# Altium footprint library USB2.0_HUB.PcbLib: 13 footprints
Each footprint in its own frame and in the unit in brackets; x right, y up, seen from the top. Pads: shape width x height; smd on the part's side, far side on the other; paste and mask are expansions set on the pad; w line width, h text height; cw(c..) or ccw(c..) is an arc to the next point about the centre after c.
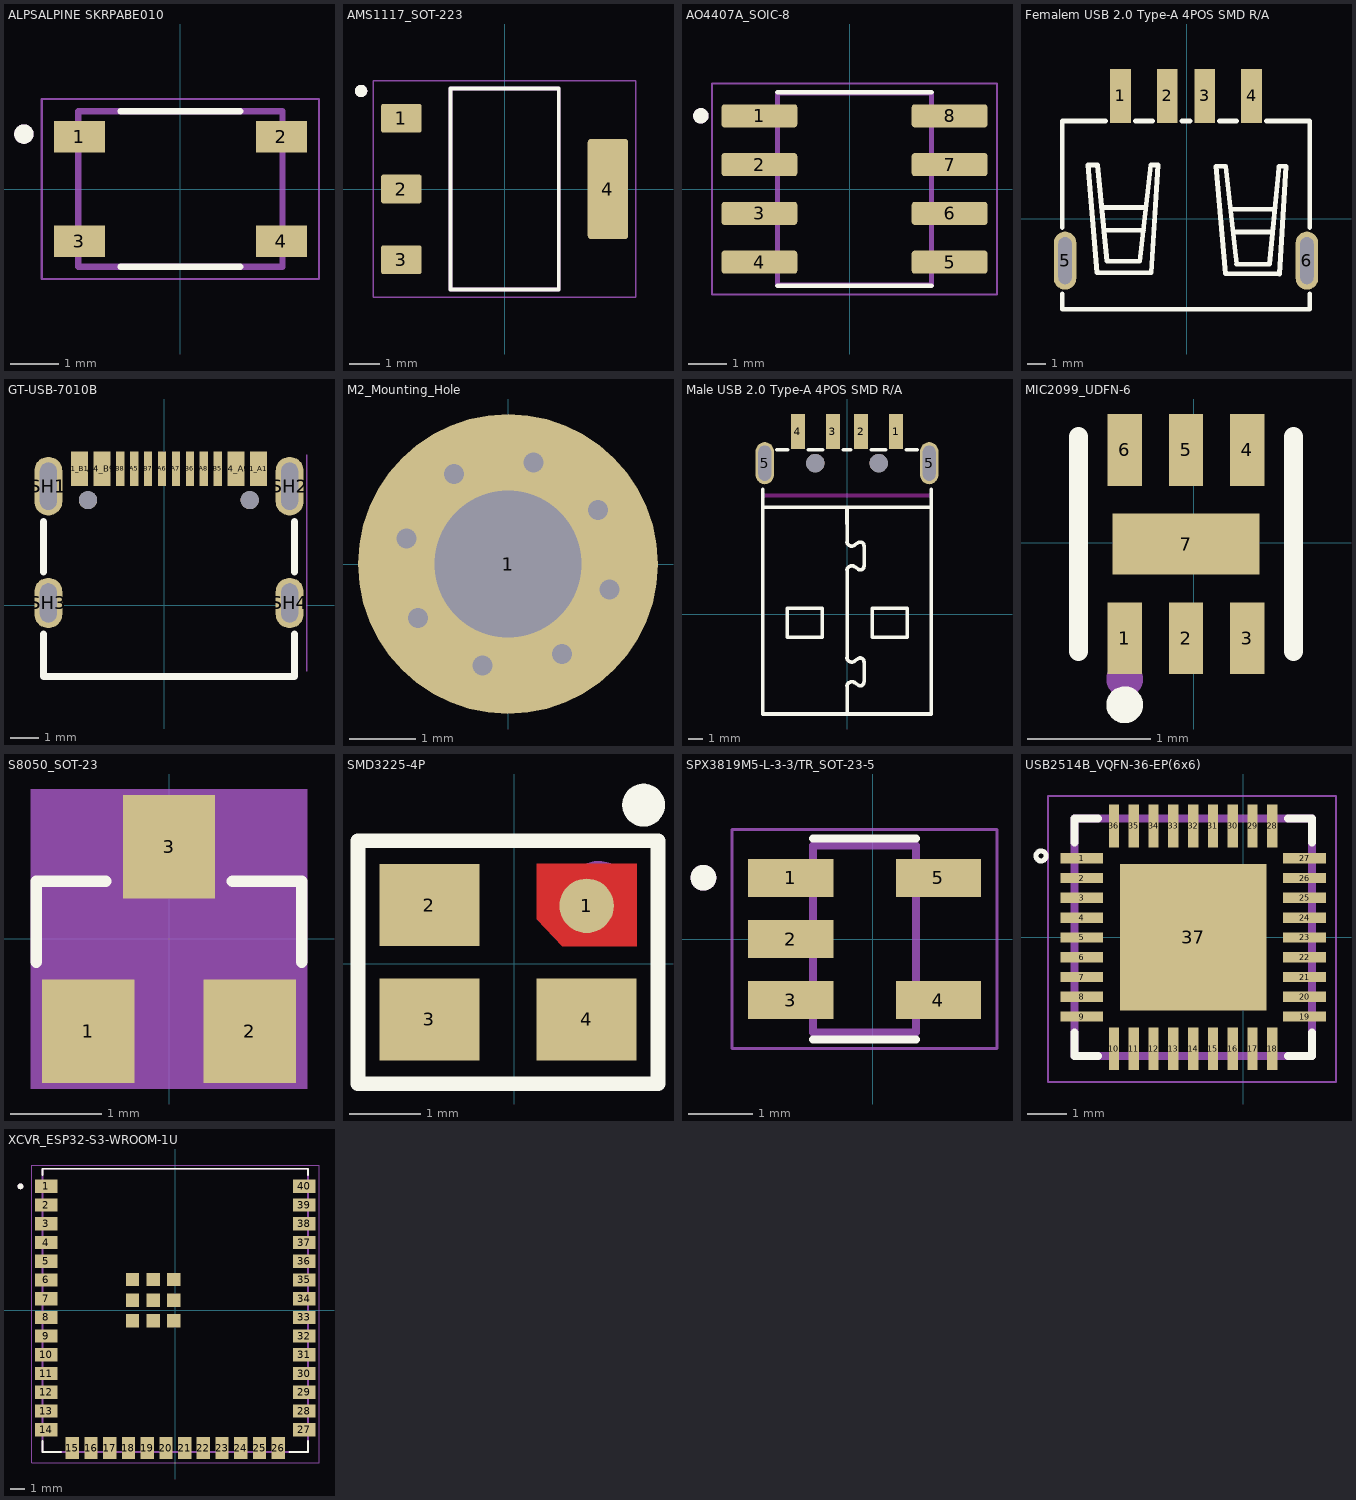
[diagram p0: the footprints below, top view; thin cyan lines are the x and y axes]

## ALPSALPINE SKRPABE010 [mm]
height 2.5
pads (4):
  rect 1.05x0.65 smd: 1(-2.075,1.075) 2(2.075,1.075) 3(-2.075,-1.075) 4(2.075,-1.075)
Top Overlay:
  circle w0.2: c-3.218,1.13 r0.1
  lines w0.127: -1.23,-1.6 1.23,-1.6 ; -1.23,1.6 1.23,1.6
Mechanical 13:
  circle w0.2: c-3.218,1.13 r0.1
  lines w0.127: -2.1,-1.6 2.1,-1.6 2.1,1.6 -2.1,1.6 -2.1,-1.6
Mechanical 15:
  lines w0.05: -2.85,-1.85 -2.85,1.85 2.85,1.85 2.85,-1.85 -2.85,-1.85
3D body "step_temp.STEP": height 2.5, standoff 0, extent -2.3,-1.6 2.3,1.6

## AMS1117_SOT-223 [mm]
height 1.8
pads (4):
  rrect15% 1.31x0.93 smd: 1(-3.345,2.29) 2(-3.345,0) 3(-3.345,-2.29)
  rrect15% 1.31x3.24 smd: 4(3.345,0)
Top Overlay:
  circle w0.2: c-4.648,3.175 r0.1
  lines w0.127: -1.753,-3.253 1.753,-3.253 1.753,3.253 -1.753,3.253 -1.753,-3.253
Mechanical 13:
  circle w0.2: c-4.648,3.175 r0.1
  lines w0.127: -1.753,-3.253 1.753,-3.253 1.753,3.253 -1.753,3.253 -1.753,-3.253
Mechanical 15:
  lines w0.05: -4.25,-3.502 -4.25,3.502 4.25,3.502 4.25,-3.502 -4.25,-3.502
3D body "step_temp.STEP": height 1.8, standoff 0, extent -3.626,-3.251 3.372,3.251

## AO4407A_SOIC-8 [mm]
pads (8):
  rrect25% 1.97x0.6 smd: 1(-2.348,1.905) 2(-2.348,0.635) 3(-2.348,-0.635) 4(-2.348,-1.905) 5(2.602,-1.905) 6(2.602,-0.635) 7(2.602,0.635) 8(2.602,1.905)
Top Overlay:
  circle w0.2: c-3.873,1.905 r0.1
  lines w0.127: -1.873,-2.519 2.127,-2.519 ; -1.873,2.519 2.127,2.519
Mechanical 13:
  circle w0.2: c-3.873,1.905 r0.1
  lines w0.127: -1.873,-2.5 2.127,-2.5 2.127,2.5 -1.873,2.5 -1.873,-2.5
Mechanical 15:
  lines w0.05: -3.583,-2.75 3.837,-2.75 3.837,2.75 -3.583,2.75 -3.583,-2.75
3D body "step_temp.STEP": height 1.75, standoff 0, extent -2.873,-2.45 3.127,2.45

## Femalem USB 2.0 Type-A 4POS SMD R/A [mm] "Female"
pads (6):
  rect 1.12x2.88 smd paste-100 mask+0.051: 1(-3.547,6.554) 2(-1.047,6.554) 3(0.953,6.554) 4(3.453,6.554)
  oval 1.2x3.1 hole 0.7 slot 2.5 at 90 deg paste-2539.97 mask+0.051: 5(-6.497,-2.236) 6(6.403,-2.236)
Top Overlay:
  lines w0.254: -6.651,-4.003 -6.651,-4.826 6.557,-4.826 6.557,-4.003 ; -6.651,-0.469 -6.651,5.207 -4.338,5.207 ; -4.49,0.598 -2.23,0.598 ; -4.35,-0.612 -2.32,-0.612 ; -2.756,5.207 -1.838,5.207 ; -0.256,5.207 0.162,5.207 ; 1.744,5.207 2.662,5.207 ; 2.391,0.499 4.651,0.499 ; 2.531,-0.711 4.561,-0.711 ; 4.244,5.207 6.557,5.207 6.557,-0.469 ; -5.276,2.863 -4.768,2.863 -4.262,-2.272 -2.512,-2.272 -1.923,2.863 -1.542,2.863 -1.897,-2.878 -4.793,-2.878 -5.276,2.863 ; 1.559,2.797 2.068,2.793 2.578,-1.747 2.653,-2.425 4.403,-2.414 4.877,2.364 4.907,2.794 5.287,2.794 4.939,-2.943 2.054,-2.938 1.559,2.797
Top Paste:
  region: -4.107,7.994 -2.987,7.994 -2.987,5.114 -4.107,5.114
  region: -1.607,7.994 -0.487,7.994 -0.487,5.114 -1.607,5.114
  region: 0.393,7.994 1.513,7.994 1.513,5.114 0.393,5.114
  region: 2.893,7.994 4.013,7.994 4.013,5.114 2.893,5.114
  region: 5.803,-1.286 5.803,-1.167 5.894,-0.946 6.063,-0.777 6.284,-0.686 6.522,-0.686 6.743,-0.777 6.912,-0.946 7.003,-1.167 7.003,-1.286 7.003,-3.186 7.003,-3.305 6.912,-3.526 6.743,-3.695 6.522,-3.786 6.284,-3.786 6.063,-3.695 5.894,-3.526 5.803,-3.305 5.803,-3.186
  region: -7.097,-1.286 -7.097,-1.167 -7.006,-0.946 -6.837,-0.777 -6.616,-0.686 -6.378,-0.686 -6.157,-0.777 -5.988,-0.946 -5.897,-1.167 -5.897,-1.286 -5.897,-3.186 -5.897,-3.305 -5.988,-3.526 -6.157,-3.695 -6.378,-3.786 -6.616,-3.786 -6.837,-3.695 -7.006,-3.526 -7.097,-3.305 -7.097,-3.186
Mechanical 15:
  circle w0.4: c-3.603,7.493 r0.2
3D body "Type_A_Female.stp": height 6.68, standoff -1.92, extent -7.182,-5.011 7.318,6.389

## GT-USB-7010B [mm]
height 3.16
pads (18):
  rect 0.6x1.24 smd paste-100 mask+0.05: A1_B12(-3.034,4.89) A4_B9(-2.234,4.89) B1_A12(3.366,4.89) B4_A9(2.566,4.89)
  rect 0.3x1.24 smd paste-100 mask+0.05: A5(-1.084,4.89) A6(-0.084,4.89) A7(0.416,4.89) A8(1.416,4.89) B5(1.916,4.89) B6(0.916,4.89) B7(-0.584,4.89) B8(-1.584,4.89)
  oval 1x2.1 hole 0.6 slot 1.7 at 90 deg paste-2539.97 mask+0.05: SH1(-4.154,4.27) SH2(4.486,4.27)
  oval 1x1.8 hole 0.6 slot 1.4 at 90 deg paste-2539.97 mask+0.05: SH3(-4.154,0.09) SH4(4.486,0.09)
  round 0.65 hole 0.65 unplated paste-2539.97: ""(-2.734,3.77) ""(3.056,3.77)
Top Overlay:
  lines w0.254: -4.334,-1.019 -4.334,-2.54 4.666,-2.54 4.666,-1.019 ; -4.334,1.199 -4.334,3.012 ; 4.666,1.199 4.666,3.012
Top Paste:
  drawing of 16 lines, arcs and shapes, not listed
Mechanical 15:
  circle w0.25: c-2.734,3.77 r0.125
  circle w0.25: c3.056,3.77 r0.125
  lines w0.05: 5.095,-2.35 5.095,5.39
3D body "TYPE-C-31-M-12--3DModel-STEP-56544.STEP": height 3.31, standoff -0.99, extent -4.368,-2.473 4.572,5.432

## M2_Mounting_Hole [mm]
pads (1):
  round 4.5 hole 2.2 mask-0.2: 1(0,0)
via -1.524,0.381 diameter 0.6 hole 0.3
via -0.808,1.347 diameter 0.6 hole 0.3
via -1.347,-0.808 diameter 0.6 hole 0.3
via -0.381,-1.524 diameter 0.6 hole 0.3
via 0.808,-1.347 diameter 0.6 hole 0.3
via 1.524,-0.381 diameter 0.6 hole 0.3
via 1.347,0.808 diameter 0.6 hole 0.3
via 0.381,1.524 diameter 0.6 hole 0.3

## Male USB 2.0 Type-A 4POS SMD R/A [mm]
pads (8):
  rect 1x2.5 smd paste-100 mask+0.051: 1(3.488,12.985) 2(0.988,12.985) 3(-1.012,12.985) 4(-3.512,12.985)
  oval 1.3x3 hole 0.9 slot 2.5 at 90 deg paste-2539.97 mask+0.051: 5(-5.862,10.735) 5(5.838,10.735)
  round 1.3 hole 1.3 unplated paste-2539.97: ""(-2.262,10.735) ""(2.238,10.735)
Top Overlay:
  lines w0.254: -6.012,7.588 5.988,7.588 ; -6.012,8.87 -6.012,-7.112 5.988,-7.112 5.988,7.588 ; -5.017,11.688 -4.243,11.688 ; -2.781,11.688 -1.743,11.688 ; -0.281,11.688 0.257,11.688 ; -0.014,-5.107 cw(c0.325,-5.163) 0.522,-4.881 ; -0.014,-3.129 ccw(c0.325,-3.072) 0.522,-3.355 ; -0.014,3.143 cw(c0.325,3.087) 0.522,3.369 ; -0.014,5.121 ccw(c0.325,5.177) 0.522,4.895 ; -0.012,7.588 -0.004,5.129 ; -0.004,-7.112 -0.004,-5.107 ; -0.004,-3.126 -0.004,3.148 ; 0.53,-4.853 0.53,-4.879 0.784,-5.056 ; 0.53,-3.355 0.784,-3.177 ; 0.53,3.376 0.784,3.199 ; 0.53,4.9 0.784,5.078 ; 0.786,-5.059 ccw(c0.935,-4.846) 1.195,-4.848 ; 0.786,-3.174 cw(c0.935,-3.388) 1.195,-3.388 ; 0.786,3.191 ccw(c0.935,3.404) 1.195,3.402 ; 0.786,5.076 cw(c0.935,4.862) 1.195,4.862 ; 1.215,-4.828 1.215,-3.38 ; 1.215,3.402 1.215,4.875 ; 1.719,11.688 2.757,11.688 ; 4.219,11.688 4.993,11.688 ; 5.988,8.87 5.988,7.588 ; -4.271,-1.653 -1.782,-1.653 -1.782,0.405 -4.271,0.405 -4.271,-1.653 ; 1.774,-1.653 4.263,-1.653 4.263,0.405 1.774,0.405 1.774,-1.653
Top Paste:
  drawing of 6 lines, arcs and shapes, not listed
Keep-Out Layer:
  lines w0.254: -5.981,8.435 5.957,8.435
Mechanical 15:
  circle w0.45: c2.238,10.735 r0.225
  circle w0.45: c-2.262,10.735 r0.225
3D body "Type_A_Male.stp": height 3.38, standoff -2.52, extent -6.223,-6.957 6.297,13.843

## MIC2099_UDFN-6 [mm]
pads (7):
  rect 0.28x0.585 smd paste+0 mask+0.051: 1(-0.564,-0.779) 2(-0.064,-0.779) 3(0.436,-0.779) 4(0.436,0.756) 5(-0.064,0.756) 6(-0.564,0.756)
  rect 1.2x0.5 smd paste+0 mask+0.051: 7(-0.064,-0.012)
Top Overlay:
  circle w0.15: c-0.563,-1.322 r0.075
  lines w0.152: -0.94,-0.888 -0.94,0.864 ; 0.813,-0.888 0.813,0.864
Mechanical 15:
  circle w0.15: c-0.563,-1.112 r0.075
3D body "mic2099.stp": height 0.58, standoff 0.03, extent -0.863,-0.8 0.737,0.8

## S8050_SOT-23 [mil]
pads (3):
  rect 40x45 smd: 1(-35,-40) 2(35,-40) 3(0,40)
Top Overlay:
  lines w5: -57.5,-10 -57.5,25 -27.5,25 ; 27.5,25 57.5,25 57.5,-10
Mechanical 13:
  region: 9,28 -9,28 -9,51 9,51
  region: 46,-51.01 28.01,-51.01 28.01,-28 46,-28
  region: -28,-51 -46,-51 -46,-28 -28,-28
Mechanical 15:
  region: 60,-65.06 -60.06,-65.06 -60.06,65 60,65
3D body "step_temp.STEP": height 55.12, standoff 0, extent -57.09,-51.18 57.09,51.18

## SMD3225-4P [mm] "HCI XC32M4-8.000-F12LJDT"
pads (4):
  round 0.762 smd: 1(1.016,0.813)
  rect 1.4x1.15 smd paste+0 mask+0.051: 2(-1.185,0.824) 3(-1.185,-0.776) 4(1.016,-0.776)
Top Layer:
  region: 1.716,0.249 0.678,0.249 0.316,0.628 0.316,1.399 1.716,1.399
Top Overlay:
  lines w0.203: -2.184,-1.676 2.016,-1.676 2.016,1.724 -2.184,1.724 -2.184,-1.676
  lines w0.3: 1.813,2.073 cw(c1.814,2.223) 1.816,2.073
Mechanical 15:
  circle w0.4: c1.186,1.04 r0.2
3D body "TSX-3225.STEP": height 0.6, standoff 0, extent -1.6,-1.25 1.6,1.25

## SPX3819M5-L-3-3/TR_SOT-23-5 [mm]
pads (5):
  rect 1.32x0.59 smd paste+0 mask+0.102: 1(-1.272,0.95) 2(-1.272,0) 3(-1.272,-0.95) 4(1.018,-0.95) 5(1.018,0.95)
Top Overlay:
  circle w0.2: c-2.627,0.95 r0.1
  lines w0.127: -0.927,-1.56 0.673,-1.56 ; -0.927,1.56 0.673,1.56
Mechanical 13:
  circle w0.2: c-2.627,0.95 r0.1
  lines w0.127: -0.927,-1.45 -0.927,1.45 0.673,1.45 0.673,-1.45 -0.927,-1.45
Mechanical 15:
  lines w0.05: -2.182,-1.7 -2.182,1.7 1.928,1.7 1.928,-1.7 -2.182,-1.7
3D body "step_temp.STEP": height 1.45, standoff 0, extent -1.527,-1.45 1.273,1.45

## USB2514B_VQFN-36-EP(6x6) [mm]
pads (37):
  rect 1.08x0.26 smd: 1(-4.085,2) 2(-4.085,1.5) 3(-4.085,1) 4(-4.085,0.5) 5(-4.085,0) 6(-4.085,-0.5) 7(-4.085,-1) 8(-4.085,-1.5) 9(-4.085,-2) 19(1.545,-2) 20(1.545,-1.5) 21(1.545,-1) 22(1.545,-0.5) 23(1.545,0) 24(1.545,0.5) 25(1.545,1) 26(1.545,1.5) 27(1.545,2)
  rect 0.26x1.08 smd: 10(-3.27,-2.815) 11(-2.77,-2.815) 12(-2.27,-2.815) 13(-1.77,-2.815) 14(-1.27,-2.815) 15(-0.77,-2.815) 16(-0.27,-2.815) 17(0.23,-2.815) 18(0.73,-2.815) 28(0.73,2.815) 29(0.23,2.815) 30(-0.27,2.815) 31(-0.77,2.815) 32(-1.27,2.815) 33(-1.77,2.815) 34(-2.27,2.815) 35(-2.77,2.815) 36(-3.27,2.815)
  rect 3.7x3.7 smd paste-0.679: 37(-1.27,0)
Top Overlay:
  circle w0.127: c-5.113,2.058 r0.127
  lines w0.2: -4.27,-2.4 -4.27,-3 -3.67,-3 ; -4.27,2.4 -4.27,3 -3.67,3 ; 1.13,-3 1.73,-3 1.73,-2.4 ; 1.13,3 1.73,3 1.73,2.4
Mechanical 13:
  lines w0.127: -4.27,-3 -4.27,3
  lines w0.2: -4.27,-3 1.73,-3 1.73,3 -4.27,3 -4.27,-3
Mechanical 15:
  lines w0.05: -4.935,-3.655 2.338,-3.655 2.338,3.575 -4.935,3.575 -4.935,-3.655
3D body "step_temp.STEP": height 1, standoff 0, extent -4.27,-3 1.73,3

## XCVR_ESP32-S3-WROOM-1U [mm]
height 3.35
pads (49):
  rect 1.5x0.9 smd: 1(-8.75,8.41) 2(-8.75,7.14) 3(-8.75,5.87) 4(-8.75,4.6) 5(-8.75,3.33) 6(-8.75,2.06) 7(-8.75,0.79) 8(-8.75,-0.48) 9(-8.75,-1.75) 10(-8.75,-3.02) 11(-8.75,-4.29) 12(-8.75,-5.56) 13(-8.75,-6.83) 14(-8.75,-8.1) 27(8.75,-8.1) 28(8.75,-6.83) 29(8.75,-5.56) 30(8.75,-4.29) 31(8.75,-3.02) 32(8.75,-1.75) 33(8.75,-0.48) 34(8.75,0.79) 35(8.75,2.06) 36(8.75,3.33) 37(8.75,4.6) 38(8.75,5.87) 39(8.75,7.14) 40(8.75,8.41)
  rect 0.9x1.5 smd: 15(-6.985,-9.35) 16(-5.715,-9.35) 17(-4.445,-9.35) 18(-3.175,-9.35) 19(-1.905,-9.35) 20(-0.635,-9.35) 21(0.635,-9.35) 22(1.905,-9.35) 23(3.175,-9.35) 24(4.445,-9.35) 25(5.715,-9.35) 26(6.985,-9.35)
  rect 0.9x0.9 smd: 41_1(-2.9,2.09) 41_2(-1.5,2.09) 41_3(-0.1,2.09) 41_4(-2.9,0.69) 41_5(-1.5,0.69) 41_6(-0.1,0.69) 41_7(-2.9,-0.71) 41_8(-1.5,-0.71) 41_9(-0.1,-0.71)
Top Overlay:
  circle w0.2: c-10.5,8.41 r0.1
  lines w0.127: -9,-8.87 -9,-9.6 -7.755,-9.6 ; -9,9.18 -9,9.6 9,9.6 9,9.18 ; 7.755,-9.6 9,-9.6 9,-8.87
Mechanical 13:
  circle w0.2: c-10.5,8.41 r0.1
  lines w0.127: -9,-9.6 -9,9.6 9,9.6 9,-9.6 -9,-9.6
Mechanical 15:
  lines w0.05: -9.75,-10.35 9.75,-10.35 9.75,9.85 -9.75,9.85 -9.75,-10.35
3D body "step_temp.STEP": height 3.35, standoff 0, extent -9,-9.6 9,9.6